# Altium schematic symbol library UCC5350M.Schlib: 1 symbol
Pins are listed as number, name and electrical type; pins without a type are passive.

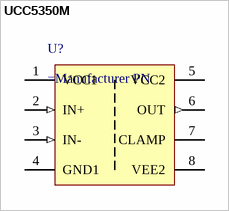
[diagram p0: symbol UCC5350M]

## UCC5350M
designator U?
Isolated Gate Driver
pins: 1 VCC1 (power), 2 IN+ (in), 3 IN- (in), 4 GND1 (power), 5 VCC2 (power), 6 OUT (out), 7 CLAMP, 8 VEE2